# Altium integrated library RT0805DRE0714K5L.IntLib: 1 symbol
Pins are listed as number, name and electrical type; pins without a type are passive.

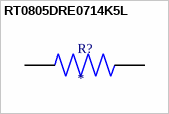
[diagram p0: symbol RT0805DRE0714K5L]

## RT0805DRE0714K5L
designator R?
MP: RT0805DRE0714K5L; Package: None; Price: None; Value: *; Availability: Unavailable
footprint RESC2012X60N
pins: 1, 2